# EAGLE library part 831-3602 (library con-wago_7.62mm)
Serie 831, Stiftleiste (für Leiterplatten) mit geraden Einlötstiften / Series 831, Male header (for PCBs) with straight solder pins Polzahl / Pole No.: 2 Bemessungsspannung / Rated Voltage: 630 V Nennstrom / Nominal Current: 41 A Lötstiftlänge: / Solder Pin Length: 4 mm Farbe / Color: lichtgrau / light gray Stand: 01.01.2012. Die jeweils aktuellen Daten zu diesem Artikel finden Sie in unserem Produktkatalog, den Sie unter www.wago.com einsehen können. As of: 01/01/2012. Please find the newest data for this article in our product catalogue, which can be viewed under www.wago.com.
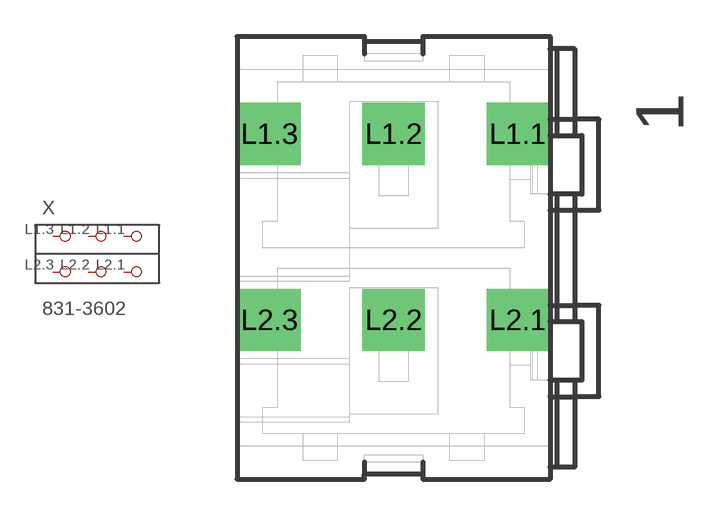
[diagram p0: symbol with the pads of P-831-3602; footprint P-831-3602]

Designator prefix X

## 831-3602  [P-831-3602]
L1.1  P1.1
L1.2  P1.2
L1.3  P1.3
L2.1  P2.1
L2.2  P2.2
L2.3  P2.3

## Footprint P-831-3602 (pad centres in mm)
drill 1.7 square: L1.1 4.08,5.08; L1.2 -1,5.08; L1.3 -6.08,5.08; L2.1 4.08,-2.54; L2.2 -1,-2.54; L2.3 -6.08,-2.54